# Altium footprint library Mechanical_components.PcbLib: 6 footprints
Each footprint in its own frame and in the unit in brackets; x right, y up, seen from the top. Pads: shape width x height; smd on the part's side, far side on the other; paste and mask are expansions set on the pad; w line width, h text height; cw(c..) or ccw(c..) is an arc to the next point about the centre after c.
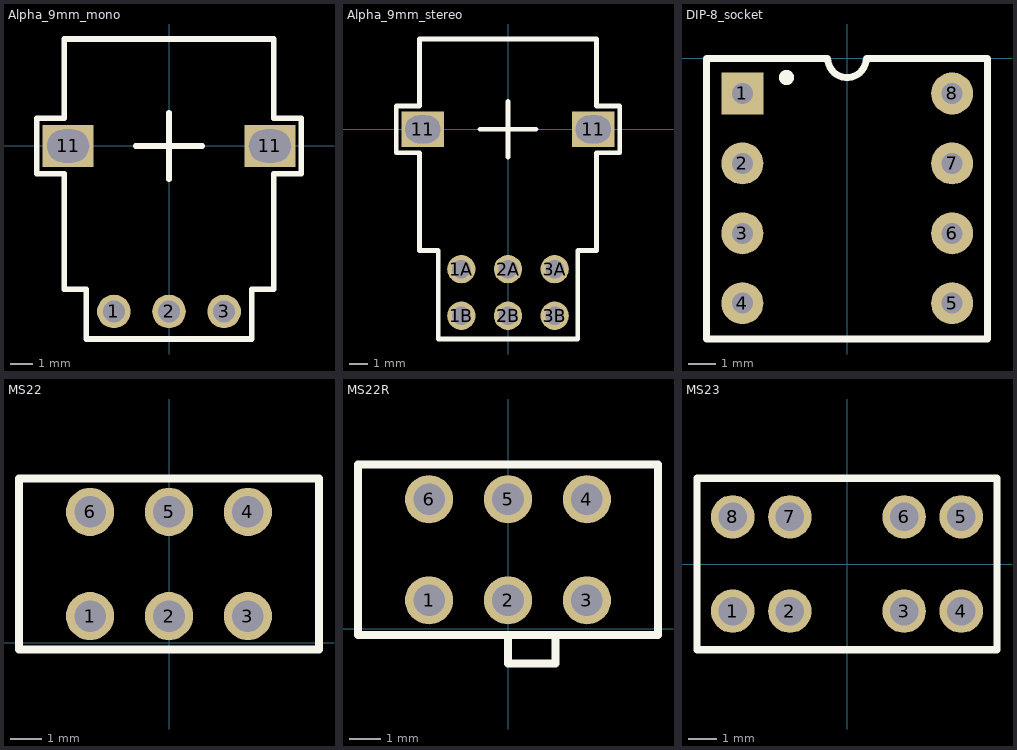
[diagram p0: the footprints below, top view; thin cyan lines are the x and y axes]

## Alpha_9mm_mono [mm]
pads (5):
  round 1.524 hole 1: 1(-2.5,-7.5) 2(0,-7.5) 3(2.5,-7.5)
  rect 2.3x1.9 hole 1.5 slot 1.9 at 0 deg: 11(-4.575,0) 11(4.575,0)
Top Overlay:
  lines w0.254: -1.5,0 1.5,0 ; 0,-1.5 0,1.5 ; -6,-1.25 -6,1.25 -4.75,1.25 -4.75,4.85 0,4.85 4.75,4.85 4.75,1.25 6,1.25 6,-1.25 4.75,-1.25 4.75,-6.5 3.75,-6.5 3.75,-8.75 -3.75,-8.75 -3.75,-6.5 -4.75,-6.5 -4.75,-1.25 -6,-1.25

## Alpha_9mm_stereo [mm]
pads (8):
  round 1.524 hole 1: 1A(-2.5,-7.5) 1B(-2.5,-10) 2A(0,-7.5) 2B(0,-10) 3A(2.5,-7.5) 3B(2.5,-10)
  rect 2.3x1.9 hole 1.5 slot 1.9 at 0 deg: 11(-4.575,0) 11(4.575,0)
Top Overlay:
  lines w0.254: -1.5,0 1.5,0 ; 0,-1.5 0,1.5 ; -6,-1.25 -6,1.25 -4.75,1.25 -4.75,4.85 0,4.85 4.75,4.85 4.75,1.25 6,1.25 6,-1.25 4.75,-1.25 4.75,-6.5 3.75,-6.5 3.75,-11.25 -3.75,-11.25 -3.75,-6.5 -4.75,-6.5 -4.75,-1.25 -6,-1.25

## DIP-8_socket [mil]
pads (8):
  rect 60x60 hole 30: 1(-149.61,-50.39)
  round 60 hole 30: 2(-149.61,-150.39) 3(-149.61,-250.39) 4(-149.61,-350.39) 5(150.39,-350.39) 6(150.39,-250.39) 7(150.39,-150.39) 8(150.39,-50.39)
Top Overlay:
  circle w10: c-86.61,-27.56 r5.91
  rectangle: -94.49,-33.01 -80.5,-23.62
  lines w10: -200.79,-401.57 200.79,-401.57 200.79,0 27.56,0 cw(c0,0) -27.56,0 -200.79,0 -200.79,-401.57
3D body "Socket_DIP8.stp": height 187.01, standoff -135.83, extent -196.46,-401.18 197.24,-2.68

## MS22 [mm] "MS22 DPDT right angle slider switch"
pads (6):
  round 1.524 hole 1: 1(-2.5,0.85) 2(0,0.85) 3(2.5,0.85) 4(2.5,4.15) 5(0,4.15) 6(-2.5,4.15)
Top Overlay:
  lines w0.254: -4.75,-0.2 4.75,-0.2 4.75,5.2 -4.75,5.2 -4.75,-0.2

## MS22R [mm] "MS22R DPDT right angle slider switch"
pads (6):
  round 1.524 hole 1: 1(-2.5,0.9) 2(0,0.9) 3(2.5,0.9) 4(2.5,4.1) 5(0,4.1) 6(-2.5,4.1)
Top Overlay:
  lines w0.254: 0,-0.2 0,-1.1 1.5,-1.1 1.5,-0.2 ; -4.75,-0.2 -4.75,5.2 4.75,5.2 4.75,-0.2 -4.75,-0.2

## MS23 [mm]
pads (8):
  round 1.524 hole 1: 1(-4,-1.65) 2(-2,-1.65) 3(2,-1.65) 4(4,-1.65) 5(4,1.65) 6(2,1.65) 7(-2,1.65) 8(-4,1.65)
Top Overlay:
  lines w0.254: -5.25,-3 5.25,-3 5.25,3 -5.25,3 -5.25,-3